# Altium footprint library ADF4007.PcbLib: 1 footprints
Each footprint in its own frame and in the unit in brackets; x right, y up, seen from the top. Pads: shape width x height; smd on the part's side, far side on the other; paste and mask are expansions set on the pad; w line width, h text height; cw(c..) or ccw(c..) is an arc to the next point about the centre after c.
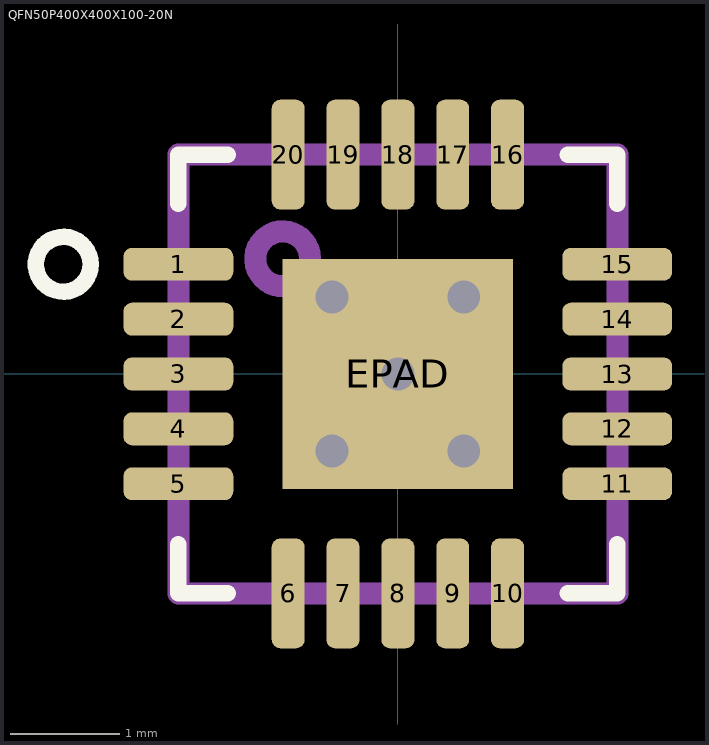
[diagram p0: the footprint, top view; thin cyan lines are the x and y axes]

## QFN50P400X400X100-20N [mm] "QFN, 20-Leads, Body 4,0x4,0mm (max), Pitch 0,50mm, IPC Medium Density"
height 1
pads (21):
  rrect50% 1x0.3 smd mask+0.03: 1(-2,1) 2(-2,0.5) 3(-2,0) 4(-2,-0.5) 5(-2,-1) 11(2,-1) 12(2,-0.5) 13(2,0) 14(2,0.5) 15(2,1)
  rrect50% 0.3x1 smd mask+0.03: 6(-1,-2) 7(-0.5,-2) 8(0,-2) 9(0.5,-2) 10(1,-2) 16(1,2) 17(0.5,2) 18(0,2) 19(-0.5,2) 20(-1,2)
  rect 2.1x2.1 hole 0.3: EPAD(0,0)
via 0.6,-0.7 diameter 0.7 hole 0.3
via -0.6,-0.7 diameter 0.7 hole 0.3
via 0.6,0.7 diameter 0.7 hole 0.3
via -0.6,0.7 diameter 0.7 hole 0.3
Top Overlay:
  circle w0.15: c-3.05,1 r0.25
  lines w0.15: -2,-1.55 -2,-2 -1.55,-2 ; -2,1.55 -2,2 -1.55,2 ; 1.55,-2 2,-2 2,-1.55 ; 1.55,2 2,2 2,1.55
Top Paste:
  region: -0.9,0.9 -0.9,-0.9 0.9,-0.9 0.9,0.9
Mechanical 1:
  circle w0.2: c-1.05,1.05 r0.25
  lines w0.2: -2,-2 2,-2 2,2 -2,2 -2,-2
3D body "User Library-qfn20-4x4.STEP": height 0.92, standoff 0, extent -2,-2 2,2